# Altium schematic symbol library conn_4pin.SchLib: 1 symbol
Pins are listed as number, name and electrical type; pins without a type are passive.

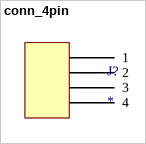
[diagram p0: symbol conn_4pin]

## conn_4pin
designator J?
footprint conn_4pin
pins: 1, 2, 3, 4